# EAGLE library part 687133149022 (library Eagle_FPC_CONNECTOR_AND_FFC_CAB (rev18c))
WR-FPC 0.50mm SMT Horiz. Bot. Contact Hinge type WR-FPC 0.50mm 33 pins Hinge type SMT Horizontal Bottom Contact ;=>Code : Con_FPC_ZIF_0.50_6871xx149022_687133149022 <http://katalog.we-online.de/media/images/eican/Con_FPC_ZIF_0.50_687115149022_pf2.jpg> Details see: http://katalog.we-online.de/em/datasheet/6871xx149022.pdf Created 2014-10-08, Karrer Zheng 2014 (C) Wurth Elektronik
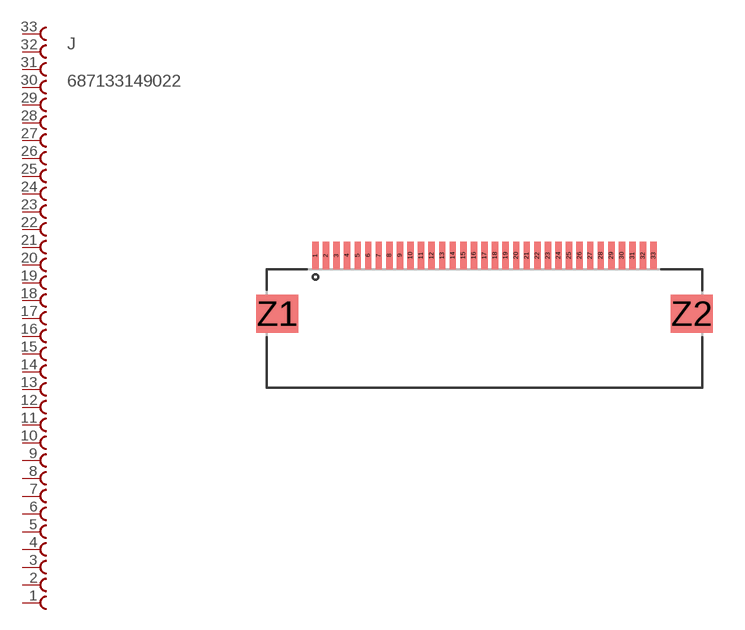
[diagram p119: symbol with the pads of 687133149022; footprint 687133149022]

Designator prefix J

## 687133149022  [687133149022]
1  33  pas
2  32  pas
3  31  pas
4  30  pas
5  29  pas
6  28  pas
7  27  pas
8  26  pas
9  25  pas
10  24  pas
11  23  pas
12  22  pas
13  21  pas
14  20  pas
15  19  pas
16  18  pas
17  17  pas
18  16  pas
19  15  pas
20  14  pas
21  13  pas
22  12  pas
23  11  pas
24  10  pas
25  9  pas
26  8  pas
27  7  pas
28  6  pas
29  5  pas
30  4  pas
31  3  pas
32  2  pas
33  1  pas

## Footprint 687133149022 (pad centres in mm)
WR-FPC 0.50mm SMT Horiz. Bot. Contact Hinge type WR-FPC 0.50mm 33pins Hinge type SMT Horizontal Bottom Contact
smd 0.3 x 1.3: 1 -8,0; 2 -7.5,0; 3 -7,0; 4 -6.5,0; 5 -6,0; 6 -5.5,0; 7 -5,0; 8 -4.5,0; 9 -4,0; 10 -3.5,0; 11 -3,0; 12 -2.5,0; 13 -2,0; 14 -1.5,0; 15 -1,0; 16 -0.5,0; 17 0,0; 18 0.5,0; 19 1,0; 20 1.5,0; 21 2,0; 22 2.5,0; 23 3,0; 24 3.5,0; 25 4,0; 26 4.5,0; 27 5,0; 28 5.5,0; 29 6,0; 30 6.5,0; 31 7,0; 32 7.5,0; 33 8,0
smd 2 x 1.8: Z1 -9.8,-2.75; Z2 9.8,-2.75